# EAGLE library part 1734327-2 (library mini a usb)
USB - mini A USB 2.0 Receptacle Connector 5 Position Surface Mount, Right Angle
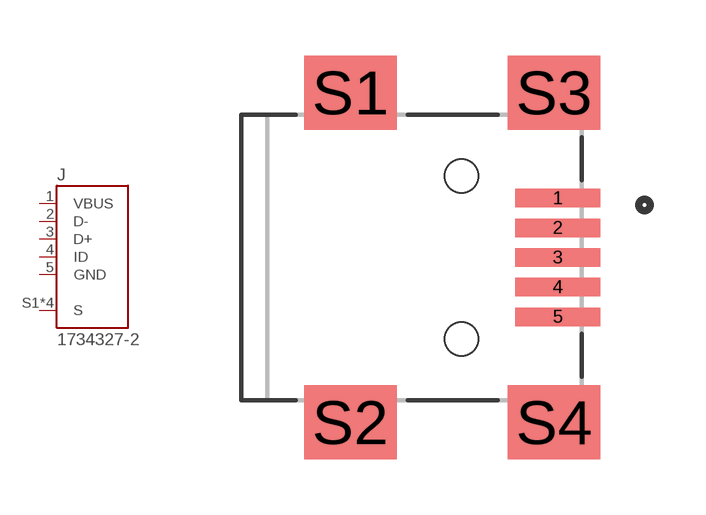
[diagram p0: symbol with the pads of TE_1734327-2; footprint TE_1734327-2]

Designator prefix J

## 1734327-2 (Comment: 1734327-2; Description: Conn USB Type A RCP 5 POS 0.8mm Solder RA SMD 5 Terminal 1 Port T/R; Digi-Key_Part_Number: A111051CT-ND; EU_RoHS_Compliance: Compliant; MF: TE Connectivity; MP: 1734327-2; Package: None; Purchase-URL: https://pricing.snapeda.com/search/part/1734327-2/?ref=eda)  [TE_1734327-2]
1  VBUS  pwr
2  D-
3  D+
4  ID
5  GND  pwr
S1  S  pwr
S2  S  pwr
S3  S  pwr
S4  S  pwr

## Footprint TE_1734327-2 (pad centres in mm)
smd 2.3 x 0.5: 1 5.6,1.6; 2 5.6,0.8; 3 5.6,0; 4 5.6,-0.8; 5 5.6,-1.6
smd 2.5 x 2: S1 0,4.45; S2 0,-4.45; S3 5.5,4.45; S4 5.5,-4.45
hole 0.9 at 3,-2.2
hole 0.9 at 3,2.2